# EAGLE library part LPC55S69JBD100 (library VansAircraft)
High Efficiency Arm Cortex-M33-Based Microcontroller Source: Datasheet <https://www.nxp.com/docs/en/data-sheet/LPC55S6x.pdf>
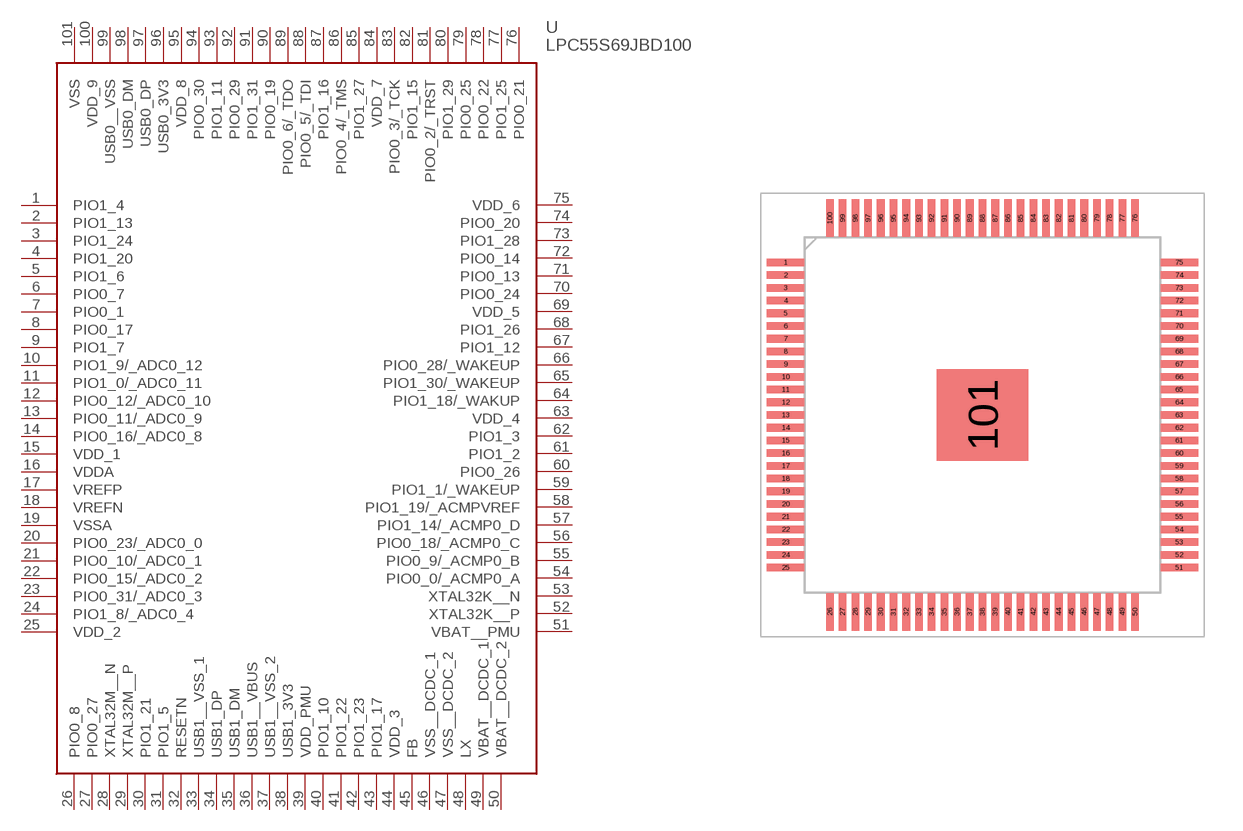
[diagram p1: symbol with the pads of QFP50P1600X1600X160-101N; footprint QFP50P1600X1600X160-101N]

Designator prefix U

## LPC55S69JBD100 (DESCRIPTION: High Efficiency Arm Cortex-M33-Based Microcontroller; HEIGHT: 1.6mm; MANUFACTURER_NAME: NXP; MANUFACTURER_PART_NUMBER: LPC55S69JBD100; MOUSER_PART_NUMBER: N/A; MOUSER_PRICE-STOCK: https://www.mouser.co.uk/ProductDetail/NXP-Semiconductors/LPC55S69JBD100?qs=byeeYqUIh0Pavm2rjSFPdw%3D%3D)  [QFP50P1600X1600X160-101N]
1  PIO1_4
2  PIO1_13
3  PIO1_24
4  PIO1_20
5  PIO1_6
6  PIO0_7
7  PIO0_1
8  PIO0_17
9  PIO1_7
10  PIO1_9/_ADC0_12
11  PIO1_0/_ADC0_11
12  PIO0_12/_ADC0_10
13  PIO0_11/_ADC0_9
14  PIO0_16/_ADC0_8
15  VDD_1
16  VDDA
17  VREFP
18  VREFN
19  VSSA
20  PIO0_23/_ADC0_0
21  PIO0_10/_ADC0_1
22  PIO0_15/_ADC0_2
23  PIO0_31/_ADC0_3
24  PIO1_8/_ADC0_4
25  VDD_2
26  PIO0_8
27  PIO0_27
28  XTAL32M__N
29  XTAL32M__P
30  PIO1_21
31  PIO1_5
32  RESETN
33  USB1__VSS_1
34  USB1_DP
35  USB1_DM
36  USB1__VBUS
37  USB1__VSS_2
38  USB1_3V3
39  VDD_PMU
40  PIO1_10
41  PIO1_22
42  PIO1_23
43  PIO1_17
44  VDD_3
45  FB
46  VSS__DCDC_1
47  VSS__DCDC_2
48  LX
49  VBAT__DCDC_1
50  VBAT__DCDC_2
51  VBAT__PMU
52  XTAL32K__P
53  XTAL32K__N
54  PIO0_0/_ACMP0_A
55  PIO0_9/_ACMP0_B
56  PIO0_18/_ACMP0_C
57  PIO1_14/_ACMP0_D
58  PIO1_19/_ACMPVREF
59  PIO1_1/_WAKEUP
60  PIO0_26
61  PIO1_2
62  PIO1_3
63  VDD_4
64  PIO1_18/_WAKUP
65  PIO1_30/_WAKEUP
66  PIO0_28/_WAKEUP
67  PIO1_12
68  PIO1_26
69  VDD_5
70  PIO0_24
71  PIO0_13
72  PIO0_14
73  PIO1_28
74  PIO0_20
75  VDD_6
76  PIO0_21
77  PIO1_25
78  PIO0_22
79  PIO0_25
80  PIO1_29
81  PIO0_2/_TRST
82  PIO1_15
83  PIO0_3/_TCK
84  VDD_7
85  PIO1_27
86  PIO0_4/_TMS
87  PIO1_16
88  PIO0_5/_TDI
89  PIO0_6/_TDO
90  PIO0_19
91  PIO1_31
92  PIO0_29
93  PIO1_11
94  PIO0_30
95  VDD_8
96  USB0_3V3
97  USB0_DP
98  USB0_DM
99  USB0__VSS
100  VDD_9
101  VSS

## Footprint QFP50P1600X1600X160-101N (pad centres in mm)
SOT1570-3
smd 1.475 x 0.3: 1 -7.738,6; 2 -7.738,5.5; 3 -7.738,5; 4 -7.738,4.5; 5 -7.738,4; 6 -7.738,3.5; 7 -7.738,3; 8 -7.738,2.5; 9 -7.738,2; 10 -7.738,1.5; 11 -7.738,1; 12 -7.738,0.5; 13 -7.738,0; 14 -7.738,-0.5; 15 -7.738,-1; 16 -7.738,-1.5; 17 -7.738,-2; 18 -7.738,-2.5; 19 -7.738,-3; 20 -7.738,-3.5; 21 -7.738,-4; 22 -7.738,-4.5; 23 -7.738,-5; 24 -7.738,-5.5; 25 -7.738,-6; 51 7.738,-6; 52 7.738,-5.5; 53 7.738,-5; 54 7.738,-4.5; 55 7.738,-4; 56 7.738,-3.5; 57 7.738,-3; 58 7.738,-2.5; 59 7.738,-2; 60 7.738,-1.5; 61 7.738,-1; 62 7.738,-0.5; 63 7.738,0; 64 7.738,0.5; 65 7.738,1; 66 7.738,1.5; 67 7.738,2; 68 7.738,2.5; 69 7.738,3; 70 7.738,3.5; 71 7.738,4; 72 7.738,4.5; 73 7.738,5; 74 7.738,5.5; 75 7.738,6
smd 0.3 x 1.475: 26 -6,-7.738; 27 -5.5,-7.738; 28 -5,-7.738; 29 -4.5,-7.738; 30 -4,-7.738; 31 -3.5,-7.738; 32 -3,-7.738; 33 -2.5,-7.738; 34 -2,-7.738; 35 -1.5,-7.738; 36 -1,-7.738; 37 -0.5,-7.738; 38 0,-7.738; 39 0.5,-7.738; 40 1,-7.738; 41 1.5,-7.738; 42 2,-7.738; 43 2.5,-7.738; 44 3,-7.738; 45 3.5,-7.738; 46 4,-7.738; 47 4.5,-7.738; 48 5,-7.738; 49 5.5,-7.738; 50 6,-7.738; 76 6,7.738; 77 5.5,7.738; 78 5,7.738; 79 4.5,7.738; 80 4,7.738; 81 3.5,7.738; 82 3,7.738; 83 2.5,7.738; 84 2,7.738; 85 1.5,7.738; 86 1,7.738; 87 0.5,7.738; 88 0,7.738; 89 -0.5,7.738; 90 -1,7.738; 91 -1.5,7.738; 92 -2,7.738; 93 -2.5,7.738; 94 -3,7.738; 95 -3.5,7.738; 96 -4,7.738; 97 -4.5,7.738; 98 -5,7.738; 99 -5.5,7.738; 100 -6,7.738
smd 3.61 x 3.61: 101 0,0